# Altium footprint library FootprintsPersonals.PcbLib: 152 footprints (part 1 of 10)
Each footprint in its own frame and in the unit in brackets; x right, y up, seen from the top. Pads: shape width x height; smd on the part's side, far side on the other; paste and mask are expansions set on the pad; w line width, h text height; cw(c..) or ccw(c..) is an arc to the next point about the centre after c.
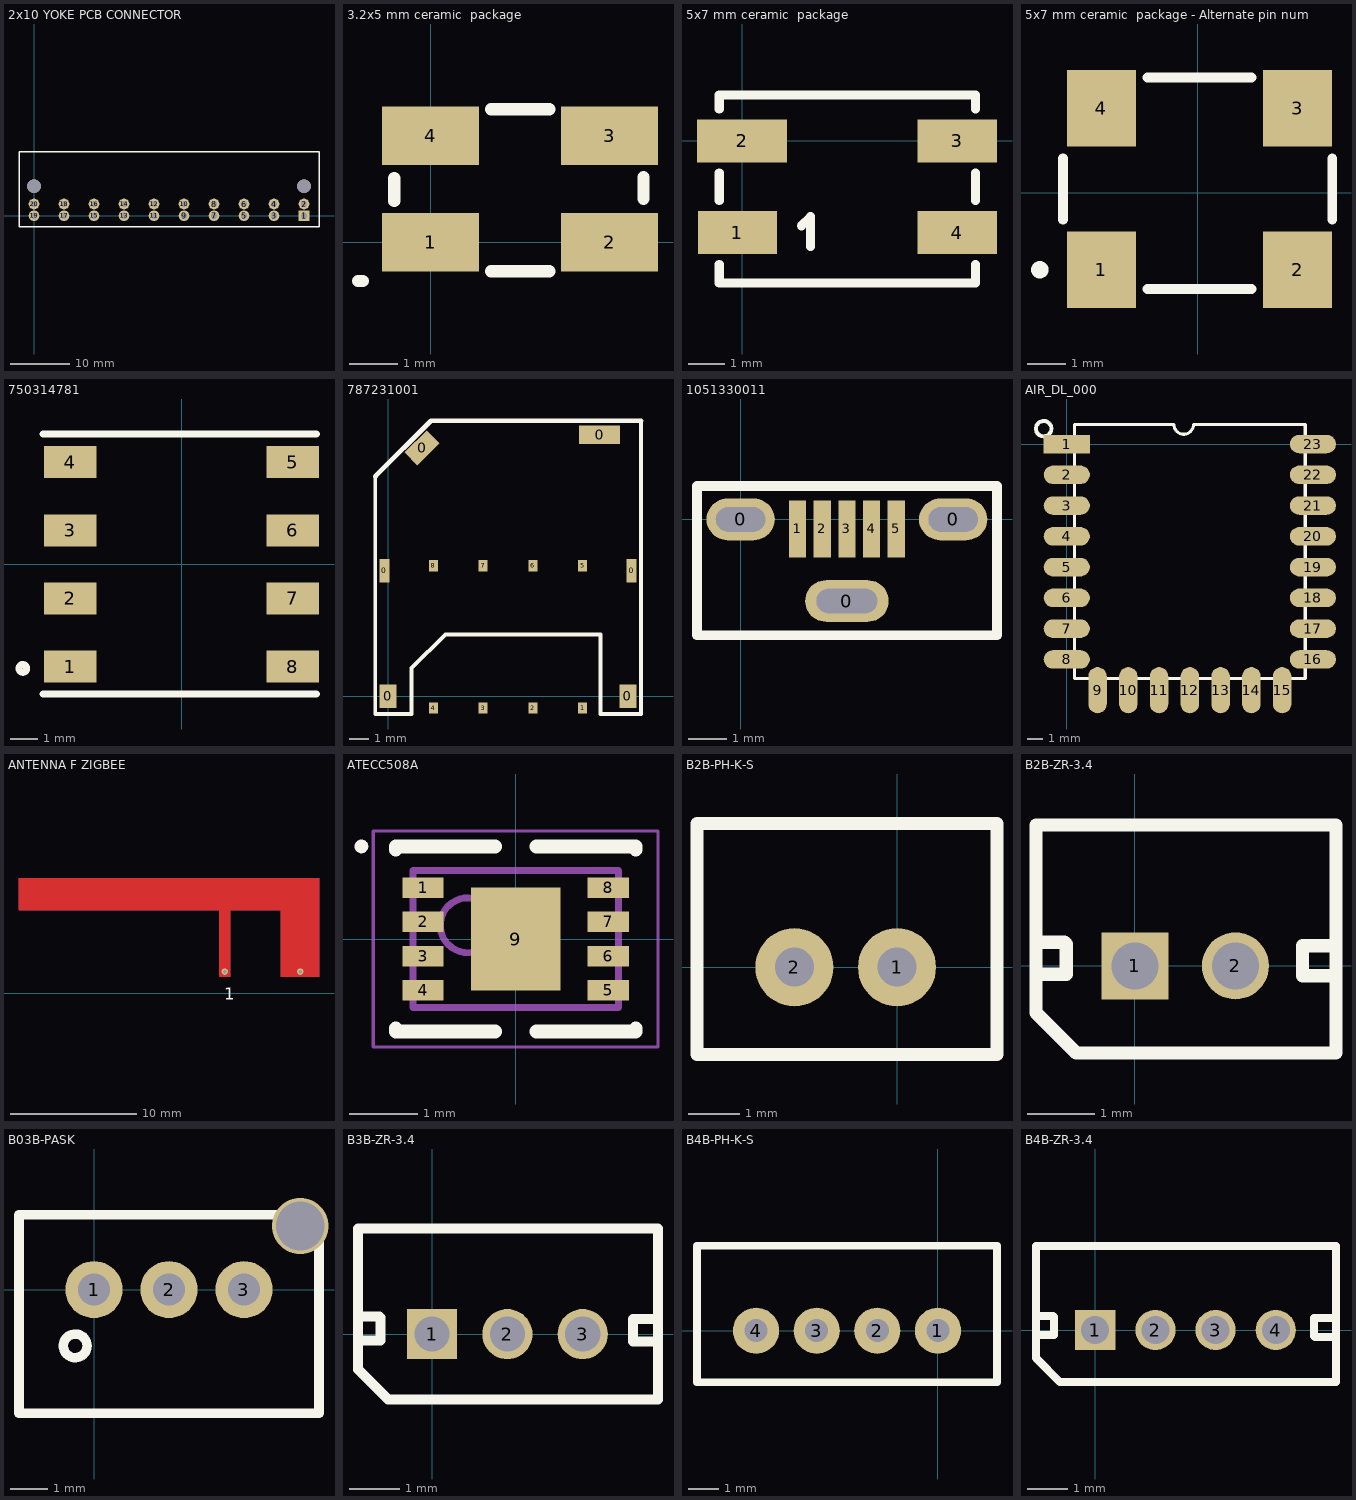
[diagram p0: the footprints below, top view; thin cyan lines are the x and y axes]

## 2x10 YOKE PCB CONNECTOR [mm]
height 8.89
pads (20):
  rect 1.8x1.8 hole 1.1: 1(45.72,0)
  round 1.8 hole 1.1: 2(45.72,2) 3(40.64,0) 4(40.64,2) 5(35.56,0) 6(35.56,2) 7(30.48,0) 8(30.48,2) 9(25.4,0) 10(25.4,2) 11(20.32,0) 12(20.32,2) 13(15.24,0) 14(15.24,2) 15(10.16,0) 16(10.16,2) 17(5.08,0) 18(5.08,2) 19(0,0) 20(0,2)
via 0,5 diameter 2.3 hole 2.3
via 45.72,5 diameter 2.3 hole 2.3
Top Overlay:
  lines w0.254: -2.54,10.89 -2.54,-1.81 48.26,-1.81 48.26,10.89 -2.51,10.89
3D body: height 8.89, standoff 0, extent -2.55,-1.8 48.25,10.9

## 3.2x5 mm ceramic  package [mm] "Miniature Quartz Crystals"
height 1.05
pads (4):
  rect 2x1.2 smd: 1(0,0) 2(3.7,0) 3(3.7,2.2) 4(0,2.2)
Top Overlay:
  lines w0.254: -1.5,-0.8 -1.4,-0.8 ; -0.75,0.85 -0.75,1.325 ; 1.25,-0.6 2.45,-0.6 ; 1.25,2.75 2.45,2.75 ; 4.4,0.9 4.4,1.35

## 5x7 mm ceramic  package [mm] "Miniature Quartz Crystals"
height 1.3
pads (4):
  rect 2.2x1.2 smd: 1(-0.127,-2.54) 3(5.969,0) 4(5.969,-2.54)
  rect 2.5x1.2 smd: 2(0,0)
Top Overlay:
  lines w0.254: -0.635,-3.429 -0.635,-3.937 6.477,-3.937 6.477,-3.429 ; -0.635,-1.651 -0.635,-0.889 ; -0.635,0.889 -0.635,1.27 6.477,1.27 6.477,0.889 ; 1.646,-2.354 1.9,-2.1 1.9,-2.931 ; 6.477,-1.651 6.477,-0.889

## 5x7 mm ceramic  package - Alternate pin num [mm] "Miniature Quartz Crystals"
height 1.3
pads (4):
  rect 1.8x2 smd: 1(-2.5,-2) 2(2.6,-2) 3(2.6,2.2) 4(-2.5,2.2)
Top Overlay:
  circle w0.254: c-4.1,-2 r0.1
  lines w0.254: -3.5,-0.7 -3.5,0.9 ; -1.3,-2.5 1.4,-2.5 ; -1.3,3 1.4,3 ; 3.5,-0.7 3.5,0.9

## 750314781 [mm]
pads (8):
  rect 1.91x1.17 smd: 1(-4.065,-3.735) 2(-4.065,-1.245) 3(-4.065,1.245) 4(-4.065,3.735) 5(4.065,3.735) 6(4.065,1.245) 7(4.065,-1.245) 8(4.065,-3.735)
Top Overlay:
  circle w0.254: c-5.8,-3.8 r0.141
  lines w0.254: -5.065,-4.735 4.935,-4.735 ; -5.065,4.765 4.935,4.765
3D body: height 10.54, standoff 0, extent -4.865,-4.735 4.835,4.765

## 787231001 [mm] "MICRO SIM CARD CONNECTOR, 1.35MM HEIGHT, PUSH PULL"
height 1.35
pads (14):
  rect 0.52x1.2 smd: 0(-0.185,6.39) 0(12.435,6.39)
  rect 0.89x1.2 smd: 0(0,0) 0(12.25,0)
  rect 0.94x1.6 smd rot 135: 0(1.735,12.67)
  rect 2.1x0.94 smd: 0(10.805,13.35)
  rect 0.45x0.54 smd: 1(9.935,-0.61) 2(7.395,-0.61) 3(4.855,-0.61) 4(2.315,-0.61)
  rect 0.45x0.6 smd: 5(9.935,6.65) 6(7.395,6.65) 7(4.855,6.65) 8(2.315,6.65)
Top Overlay:
  lines w0.2: -0.65,11.215 -0.65,-0.915 1.2,-0.915 1.2,1.425 2.925,3.15 10.85,3.15 10.85,-0.91 12.925,-0.91 12.925,14.055
  lines w0.254: -0.65,11.215 2.19,14.055 12.925,14.055
3D body "787231001.stp": height 1.79, standoff 0.45, extent -0.275,-0.8 12.525,13.62

## 1051330011 [mm] "USB type Micro B, vertical"
pads (8):
  oval 1.8x1.1 hole 0.65 slot 1.3 at 0 deg: 0(0,0) 0(5.6,0)
  oval 2.2x1.1 hole 0.65 slot 1.6 at 0 deg: 0(2.8,-2.15)
  rect 0.45x1.5 smd mask+0.05: 1(1.5,-0.25) 2(2.15,-0.25) 3(2.8,-0.25) 4(3.45,-0.25) 5(4.1,-0.25)
Top Overlay:
  lines w0.254: -1.15,-3.055 -1.15,0.879 6.754,0.879 6.754,-3.055 -1.15,-3.055
3D body "1051330011.stp": height 7.45, standoff -2.35, extent -1.225,-3.29 6.8,1.16

## AIR_DL_000 [mm]
pads (23):
  rect 3x1.2 smd: 1(0,0)
  oval 3x1.2 smd: 2(0,-2) 3(0,-4) 4(0,-6) 5(0,-8) 6(0,-10) 7(0,-12) 8(0,-14) 16(16,-14) 17(16,-12) 18(16,-10) 19(16,-8) 20(16,-6) 21(16,-4) 22(16,-2) 23(16,0)
  oval 1.2x3 smd: 9(2,-16) 10(4,-16) 11(6,-16) 12(8,-16) 13(10,-16) 14(12,-16) 15(14,-16)
Top Overlay:
  circle w0.254: c-1.5,1 r0.5
  lines w0.2: 0.5,-15.24 0.5,1.27 6.965,1.27 ccw(c7.6,1.27) 8.235,1.27 15.5,1.27 15.5,-15.24 0.5,-15.24
3D body: height 1.8, standoff 0, extent 0,-15 16,1

## ANTENNA F ZIGBEE [mm]
pads (2):
  round 0.5 hole 0.3: 1(18.208,1.698) 2(24.202,1.698)
Top Layer:
  region: 18.642,7.852 18.646,7.843 18.646,1.299 18.642,1.289 18.633,1.285 17.783,1.285 17.774,1.289 17.77,1.299 17.77,7.843 17.774,7.852 17.783,7.856 18.633,7.856
  region: 25.686,9.101 25.69,9.092 25.69,1.299 25.686,1.289 25.676,1.285 22.679,1.285 22.669,1.289 22.665,1.299 22.665,6.58 1.898,6.58 1.889,6.584 1.884,6.594 1.884,9.092 1.889,9.101 1.898,9.105 25.676,9.105
  region: 18.642,7.852 18.646,7.843 18.646,1.299 18.642,1.289 18.633,1.285 17.783,1.285 17.774,1.289 17.77,1.299 17.77,7.843 17.774,7.852 17.783,7.856 18.633,7.856
  region: 25.686,9.101 25.69,9.092 25.69,1.299 25.686,1.289 25.676,1.285 22.679,1.285 22.669,1.289 22.665,1.299 22.665,6.58 1.898,6.58 1.889,6.584 1.884,6.594 1.884,9.092 1.889,9.101 1.898,9.105 25.676,9.105
Bottom Layer:
  region: 18.642,7.752 18.646,7.743 18.646,1.299 18.642,1.289 18.633,1.285 17.783,1.285 17.774,1.289 17.77,1.299 17.77,7.743 17.774,7.752 17.783,7.757 18.633,7.757
  region: 25.686,9.101 25.69,9.092 25.69,1.299 25.686,1.289 25.676,1.285 22.679,1.285 22.669,1.289 22.665,1.299 22.665,6.58 1.898,6.58 1.889,6.584 1.884,6.594 1.884,9.092 1.889,9.101 1.898,9.105 25.676,9.105
  region: 18.642,7.752 18.646,7.743 18.646,1.299 18.642,1.289 18.633,1.285 17.783,1.285 17.774,1.289 17.77,1.299 17.77,7.743 17.774,7.752 17.783,7.757 18.633,7.757
  region: 25.686,9.101 25.69,9.092 25.69,1.299 25.686,1.289 25.676,1.285 22.679,1.285 22.669,1.289 22.665,1.299 22.665,6.58 1.898,6.58 1.889,6.584 1.884,6.594 1.884,9.092 1.889,9.101 1.898,9.105 25.676,9.105
Top Overlay:
  text "1" at 18.164,-0.524 h0.95
  text ".Designator" at 21.731,-0.854 h0.95
Mechanical 1:
  text "1" at 18.164,-0.524 h0.95
  text ".Pattern" at 4.509,5.07 h0.57
  text ".Comment" at 7.599,3.337 h0.95
  text ".Designator" at 21.731,-0.854 h0.95

## ATECC508A [mm] "QFN, 8-Leads, Body 3,00x2,00mm, Pitch 0,50mm, Thermal Pad 1,30x1,50mm, IPC Medium Density"
height 1
pads (9):
  rect 0.6x0.3 smd: 1(-1.35,0.75) 2(-1.35,0.25) 3(-1.35,-0.25) 4(-1.35,-0.75) 5(1.35,-0.75) 6(1.35,-0.25) 7(1.35,0.25) 8(1.35,0.75)
  rect 1.3x1.5 smd: 9(0,0)
Top Overlay:
  circle w0.1: c-2.25,1.35 r0.05
  lines w0.2: -1.75,-1.3 -1.75,-1.35 -0.3,-1.35 ; -1.75,1.3 -1.75,1.35 -0.3,1.35 ; 0.3,-1.35 1.75,-1.35 1.75,-1.3 ; 0.3,1.35 1.75,1.35 1.75,1.3
Mechanical 13:
  circle w0.1: c-0.7,0.2 r0.4
  lines w0.1: -1.5,-1 1.5,-1 1.5,1 -1.5,1 -1.5,-1
Mechanical 15:
  lines w0.05: -2.075,-1.575 2.075,-1.575 2.075,1.575 -2.075,1.575 -2.075,-1.575
  lines w0.1: -0.5,0 0.5,0 ; 0,-0.5 0,0.5
3D body "ATECC508A.step": height 1, standoff 0, extent -1.501,-1 1.501,1

## B2B-PH-K-S [mil]
pads (2):
  round 60 hole 30: 1(0,0) 2(-78.74,0)
Top Overlay:
  lines w10: -153.54,-66.93 -153.54,110.24 76.77,110.24 76.77,-66.93 -153.54,-66.93
3D body "B2B-PH-K-S.STEP": height 236.7, standoff -133.38, extent -155.51,-66.93 76.77,110.24

## B2B-ZR-3.4 [mm]
pads (2):
  rect 1x1 hole 0.7: 1(0,0)
  round 1 hole 0.7: 2(1.5,0)
Top Overlay:
  lines w0.2: -1.475,0.35 -1.05,0.35 -1.025,0.325 -1.025,-0.125 ; -1.45,-0.125 -1.025,-0.125 ; 3,-0.15 2.5,-0.15 2.5,0.3 3,0.3 ; -1.025,-0.125 -1.025,-0.125 ; -1.475,-0.7 -0.875,-1.3 3,-1.3 3,2.1 -1.475,2.1 -1.475,-0.7
3D body "B2B-ZR.STEP": height 4.5, standoff -2.7, extent -1.45,-1.3 3.05,2.2

## B03B-PASK [mil] "JST connector 3 VIAS PA Familyy serie"
height 303.15
pads (3):
  round 60 hole 33.46: 1(0,0) 2(78.74,0) 3(157.48,0)
via 216.54,66.93 diameter 59.06 hole 51.18
Top Overlay:
  circle w10: c-19.69,-59.06 r12.45
  lines w10: -78.74,-129.92 236.22,-129.92 236.22,78.74 -78.74,78.74 -78.74,-129.92
3D body: height 303.15, standoff 0, extent -78.74,-129.92 236.22,78.74

## B3B-ZR-3.4 [mm]
pads (3):
  rect 1x1 hole 0.7: 1(0,0)
  round 1 hole 0.7: 2(1.5,0) 3(3,0)
Top Overlay:
  lines w0.2: -1.475,0.35 -1.05,0.35 -1.025,0.325 -1.025,-0.125 ; -1.45,-0.125 -1.025,-0.125 ; 4.475,-1.3 -0.875,-1.3 -1.475,-0.7 -1.475,2.1 4.475,2.1 ; 4.5,-1.3 4.5,2.1 ; 4.5,-0.175 4.475,-0.15 4,-0.15 4,0.3 4.5,0.3 ; -1.025,-0.125 -1.025,-0.125
3D body "B3B-ZR-3.4.STEP": height 4.5, standoff -3.4, extent -1.5,-1.3 4.5,2.2

## B4B-PH-K-S [mil]
pads (4):
  round 60 hole 30: 1(0,0) 2(-78.74,0) 3(-157.48,0) 4(-236.22,0)
Top Overlay:
  lines w10: -312.99,-66.93 -312.99,110.24 76.77,110.24 76.77,-66.93 -312.99,-66.93
3D body "B4B-PH-K-S.STEP": height 236.22, standoff -133.86, extent -312.98,-66.92 76.78,110.24

## B4B-ZR-3.4 [mm]
pads (4):
  rect 1x1 hole 0.7: 1(0,0)
  round 1 hole 0.7: 2(1.5,0) 3(3,0) 4(4.5,0)
Top Overlay:
  lines w0.2: -1.475,0.35 -1.05,0.35 -1.025,0.325 -1.025,-0.125 ; -1.45,-0.125 -1.025,-0.125 ; 5.875,0.3 5.45,0.3 5.45,-0.15 5.475,-0.175 5.9,-0.175 ; -1.025,-0.125 -1.025,-0.125 ; -1.475,-0.7 -0.875,-1.3 6,-1.3 6,2.1 -1.475,2.1 -1.475,-0.7
3D body "B4B-ZR.STEP": height 4.5, standoff -2.7, extent -1.5,-1.3 6,2.2